# EAGLE library part ST7735 (library EE445L)
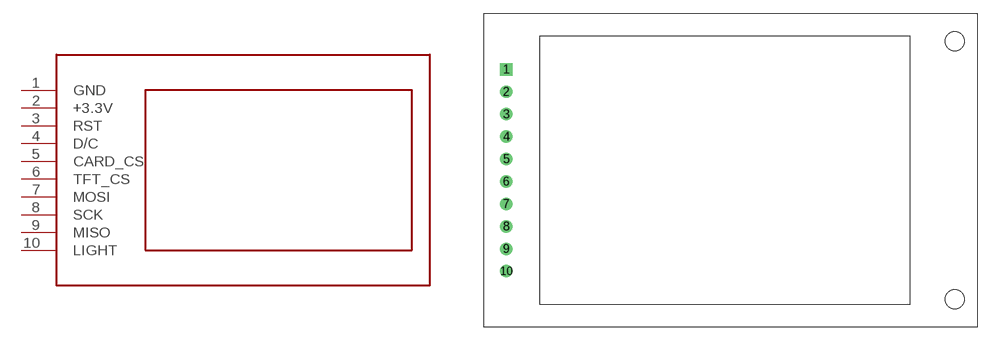
[diagram p25: symbol with the pads of ST7735; footprint ST7735]

Designator prefix -

## ST7735  [ST7735]
1  GND
2  +3.3V
3  RST
4  D/C
5  CARD_CS
6  TFT_CS
7  MOSI
8  SCK
9  MISO
10  LIGHT

## Footprint ST7735 (pad centres in mm)
drill 0.9 square: 1 0,0
drill 0.9: 2 0,-2.54; 3 0,-5.08; 4 0,-7.62; 5 0,-10.16; 6 0,-12.7; 7 0,-15.24; 8 0,-17.78; 9 0,-20.32; 10 0,-22.86
hole 2.184 at 50.8,3.175
hole 2.184 at 50.8,-26.035